# EAGLE library part PUMP-MAX619 (library LITTLEBITS140915)
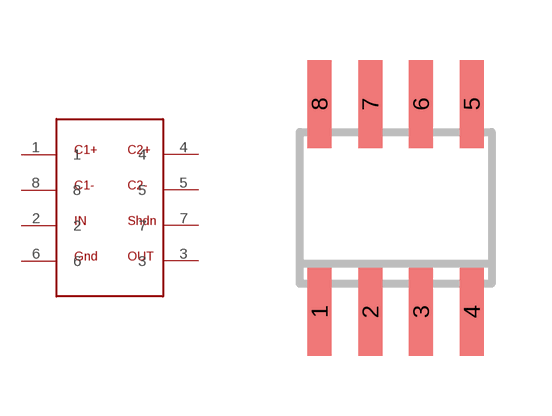
[diagram p5: symbol with the pads of PUMP-MAX619; footprint PUMP-MAX619]

Designator prefix -

## PUMP-MAX619  [PUMP-MAX619]
1  1
2  2
3  3
4  4
5  5
6  6
7  7
8  8

## Footprint PUMP-MAX619 (pad centres in mm)
smd 0.6 x 2.2: 1 -1.905,-2.6; 2 -0.635,-2.6; 3 0.635,-2.6; 4 1.905,-2.6; 5 1.905,2.6; 6 0.635,2.6; 7 -0.635,2.6; 8 -1.905,2.6